# Altium schematic symbol library IC.SchLib: 278 symbols (part 3 of 3)
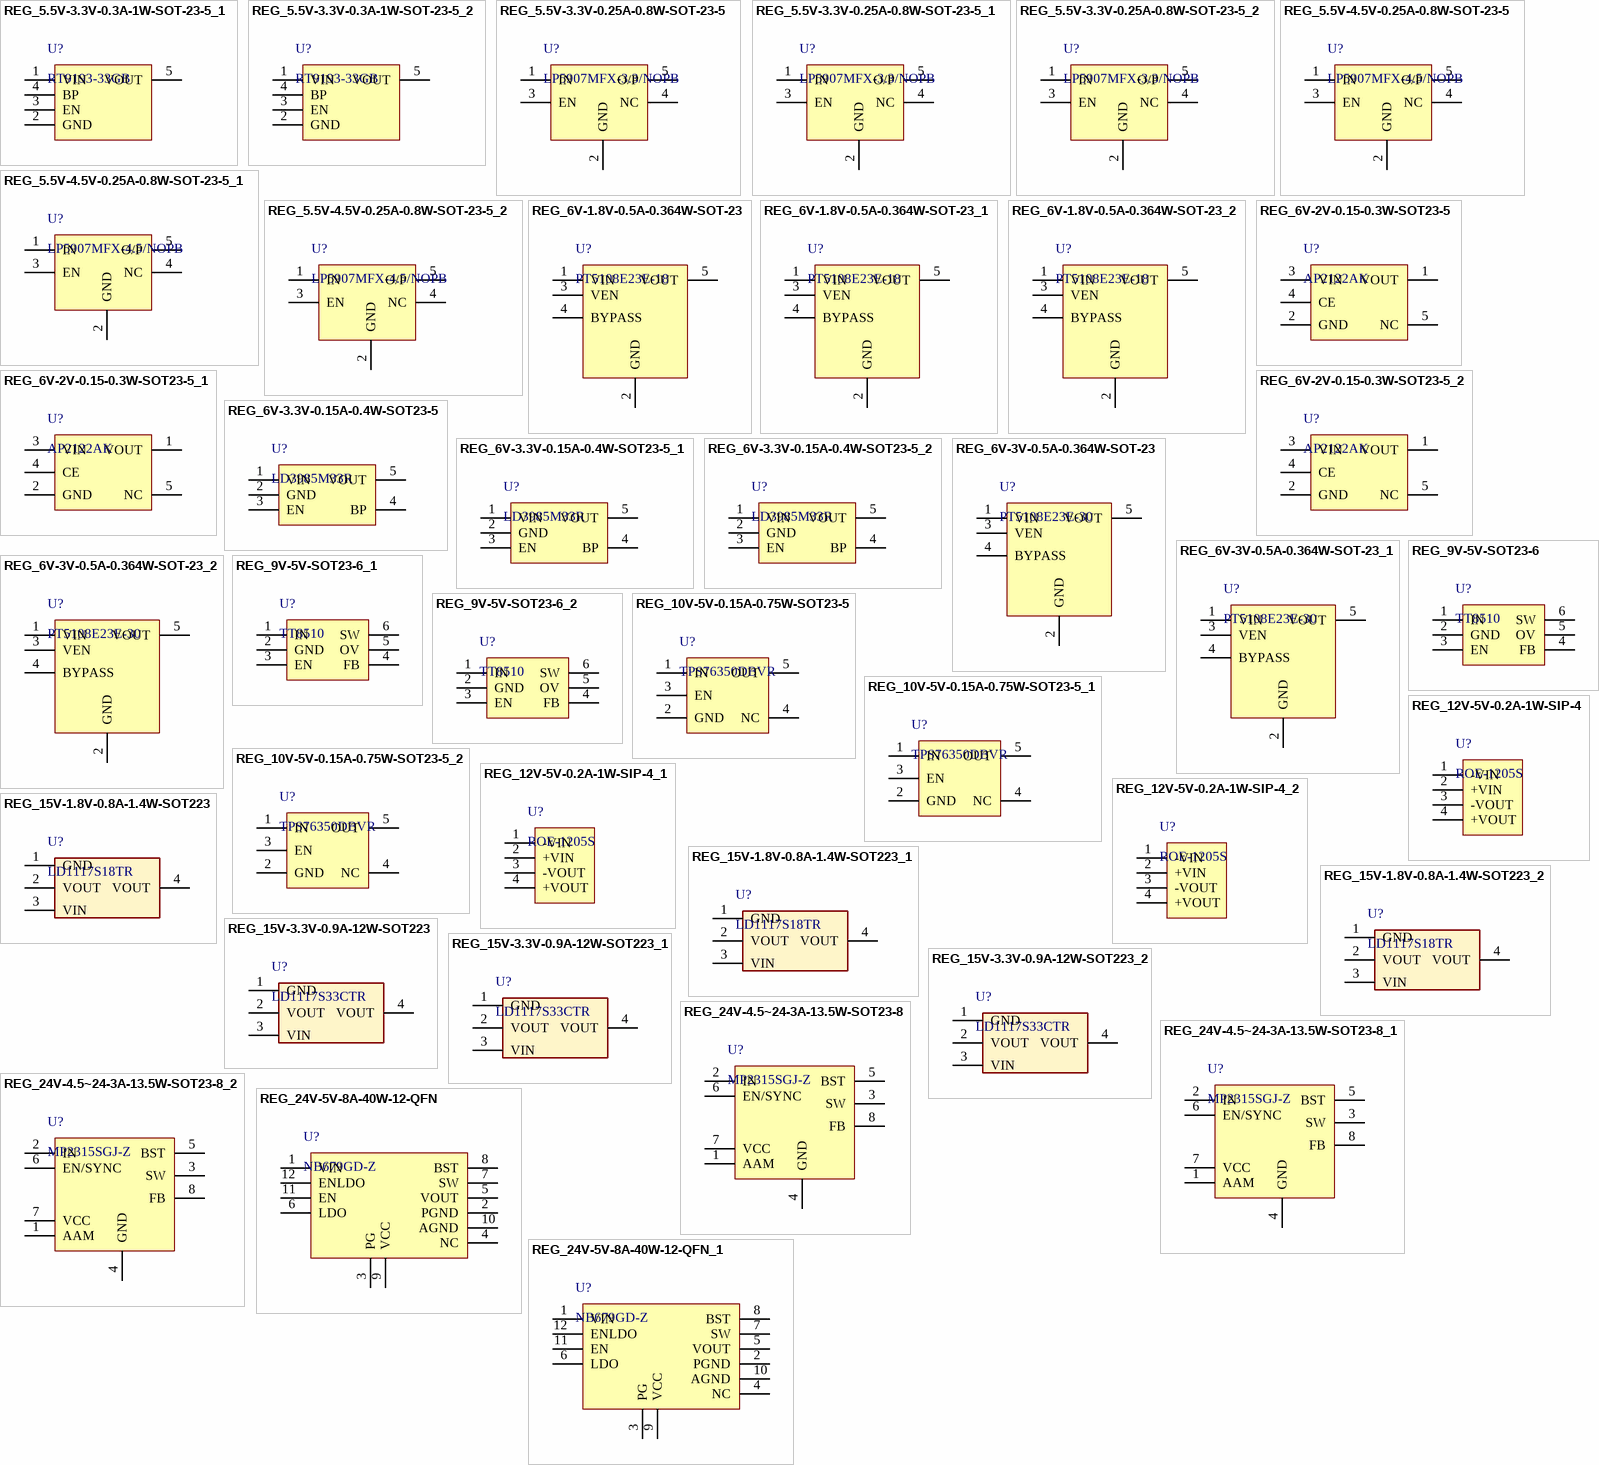
[diagram p13: symbols REG_5.5V-3.3V-0.3A-1W-SOT-23-5_1 to REG_24V-5V-8A-40W-12-QFN_1]

## REG_9V-5V-SOT23-6_2
designator U?, comment TT8510
Boost Converter IC-SOT-23-6 Pckage; Manufacturer: NA; Manufacturer Part Number: TT8510; Case/Package: SOT-23-6; Supplier-1: NA; Supplier Part Number-1: NA; Alternate Part Number-1: NA
footprint SOT23-6 (CASE: SOT)
pins: 1 IN, 2 GND, 3 EN, 4 FB, 5 OV, 6 SW

## REG_10V-5V-0.15A-0.75W-SOT23-5
designator U?, comment TPS76350DBVR
Linear Voltage Regulator IC 1 Output 150mA SOT-23-5; Manufacturer: XP Power; Alternate Part Number-1: NA; Manufacturer Part Number: TPS76350DBVR; Case/Package: SOT23-5; Supplier-1: ARROW; Supplier Part Number-1: TPS76350DBVR
footprint SOT23-5 (CASE: SOT)
pins: 1 IN, 2 GND, 3 EN, 4 NC, 5 OUT

## REG_10V-5V-0.15A-0.75W-SOT23-5_1
designator U?, comment TPS76350DBVR
Linear Voltage Regulator IC 1 Output 150mA SOT-23-5; Manufacturer: XP Power; Alternate Part Number-1: NA; Manufacturer Part Number: TPS76350DBVR; Case/Package: SOT23-5; Supplier-1: ARROW; Supplier Part Number-1: TPS76350DBVR
footprint SOT23-5 (CASE: SOT)
pins: 1 IN, 2 GND, 3 EN, 4 NC, 5 OUT

## REG_10V-5V-0.15A-0.75W-SOT23-5_2
designator U?, comment TPS76350DBVR
Linear Voltage Regulator IC 1 Output 150mA SOT-23-5; Manufacturer: XP Power; Alternate Part Number-1: NA; Manufacturer Part Number: TPS76350DBVR; Case/Package: SOT23-5; Supplier-1: ARROW; Supplier Part Number-1: TPS76350DBVR
footprint SOT23-5 (CASE: SOT)
pins: 1 IN, 2 GND, 3 EN, 4 NC, 5 OUT

## REG_12V-5V-0.2A-1W-SIP-4
designator U?, comment ROE-1205S
Isolated Module DC DC Converter 1 Output 5V 200mA 10.8V - 13.2V Input; Manufacturer: Texas Instruments; Alternate Part Number-1: NA; Manufacturer Part Number: ROE-1205S; Case/Package: SIP-4; Supplier-1: ARROW; Supplier Part Number-1: ROE-1205S
footprint SIP4_100_472_39X59_TH (SIP4)
pins: 1 -VIN, 2 +VIN, 3 -VOUT, 4 +VOUT

## REG_12V-5V-0.2A-1W-SIP-4_1
designator U?, comment ROE-1205S
Isolated Module DC DC Converter 1 Output 5V 200mA 10.8V - 13.2V Input; Manufacturer: Texas Instruments; Alternate Part Number-1: NA; Manufacturer Part Number: ROE-1205S; Case/Package: SIP-4; Supplier-1: ARROW; Supplier Part Number-1: ROE-1205S
footprint SIP4_100_472_39X59_TH (SIP4)
pins: 1 -VIN, 2 +VIN, 3 -VOUT, 4 +VOUT

## REG_12V-5V-0.2A-1W-SIP-4_2
designator U?, comment ROE-1205S
Isolated Module DC DC Converter 1 Output 5V 200mA 10.8V - 13.2V Input; Manufacturer: Texas Instruments; Alternate Part Number-1: NA; Manufacturer Part Number: ROE-1205S; Case/Package: SIP-4; Supplier-1: ARROW; Supplier Part Number-1: ROE-1205S
footprint SIP4_100_472_39X59_TH (SIP4)
pins: 1 -VIN, 2 +VIN, 3 -VOUT, 4 +VOUT

## REG_15V-1.8V-0.8A-1.4W-SOT223
designator U?, comment LD1117S18TR
LDO Voltage Regulators 1.8V 0.8A Positive; Manufacturer: STMicroelectronics; Alternate Part Number-1: NA; Manufacturer Part Number: LD1117S18TR; Case/Package: SOT-223-3; Supplier-1: Mouser; Supplier Part Number-1: 511-LD1117S18-TR
footprint SOT223_3 (CASE: SOT223)
pins: 1 GND, 2 VOUT, 3 VIN, 4 VOUT

## REG_15V-1.8V-0.8A-1.4W-SOT223_1
designator U?, comment LD1117S18TR
LDO Voltage Regulators 1.8V 0.8A Positive; Manufacturer: STMicroelectronics; Alternate Part Number-1: NA; Manufacturer Part Number: LD1117S18TR; Case/Package: SOT-223-3; Supplier-1: Mouser; Supplier Part Number-1: 511-LD1117S18-TR
footprint SOT223_3 (CASE: SOT223)
pins: 1 GND, 2 VOUT, 3 VIN, 4 VOUT

## REG_15V-1.8V-0.8A-1.4W-SOT223_2
designator U?, comment LD1117S18TR
LDO Voltage Regulators 1.8V 0.8A Positive; Manufacturer: STMicroelectronics; Alternate Part Number-1: NA; Manufacturer Part Number: LD1117S18TR; Case/Package: SOT-223-3; Supplier-1: Mouser; Supplier Part Number-1: 511-LD1117S18-TR
footprint SOT223_3 (CASE: SOT223)
pins: 1 GND, 2 VOUT, 3 VIN, 4 VOUT

## REG_15V-3.3V-0.9A-12W-SOT223
designator U?, comment LD1117S33CTR
Linear Voltage Regulator IC 1 Output 800mA SOT-223; Manufacturer: STMicroelectronics; Alternate Part Number-1: NA; Manufacturer Part Number: LD1117S33CTR; Case/Package: SOT223; Supplier-1: SP ROAD; Supplier Part Number-1: LD1117S33CTR
footprint SOT223_3
pins: 1 GND, 2 VOUT, 3 VIN, 4 VOUT

## REG_15V-3.3V-0.9A-12W-SOT223_1
designator U?, comment LD1117S33CTR
Linear Voltage Regulator IC 1 Output 800mA SOT-223; Manufacturer: STMicroelectronics; Alternate Part Number-1: NA; Manufacturer Part Number: LD1117S33CTR; Case/Package: SOT223; Supplier-1: SP ROAD; Supplier Part Number-1: LD1117S33CTR
footprint SOT223_3
pins: 1 GND, 2 VOUT, 3 VIN, 4 VOUT

## REG_15V-3.3V-0.9A-12W-SOT223_2
designator U?, comment LD1117S33CTR
Linear Voltage Regulator IC 1 Output 800mA SOT-223; Manufacturer: STMicroelectronics; Alternate Part Number-1: NA; Manufacturer Part Number: LD1117S33CTR; Case/Package: SOT223; Supplier-1: SP ROAD; Supplier Part Number-1: LD1117S33CTR
footprint SOT223_3
pins: 1 GND, 2 VOUT, 3 VIN, 4 VOUT

## REG_24V-4.5~24-3A-13.5W-SOT23-8
designator U?, comment MP2315SGJ-Z
Switching Voltage Regulators 3A 24V Hi Effc.Sync Step Down Converter; Manufacturer: Monolithic Power Systems (MPS); Alternate Part Number-1: NA; Manufacturer Part Number: MP2315SGJ-Z; Case/Package: SOT-23-8; Supplier-1: Mouser; Supplier Part Number-1: 946-MP2315SGJ-Z
footprint SOT23-8 (Case-SOT)
pins: 1 AAM, 2 IN, 3 SW, 4 GND, 5 BST, 6 EN/SYNC, 7 VCC, 8 FB

## REG_24V-4.5~24-3A-13.5W-SOT23-8_1
designator U?, comment MP2315SGJ-Z
Switching Voltage Regulators 3A 24V Hi Effc.Sync Step Down Converter; Manufacturer: Monolithic Power Systems (MPS); Alternate Part Number-1: NA; Manufacturer Part Number: MP2315SGJ-Z; Case/Package: SOT-23-8; Supplier-1: Mouser; Supplier Part Number-1: 946-MP2315SGJ-Z
footprint SOT23-8 (Case-SOT)
pins: 1 AAM, 2 IN, 3 SW, 4 GND, 5 BST, 6 EN/SYNC, 7 VCC, 8 FB

## REG_24V-4.5~24-3A-13.5W-SOT23-8_2
designator U?, comment MP2315SGJ-Z
Switching Voltage Regulators 3A 24V Hi Effc.Sync Step Down Converter; Manufacturer: Monolithic Power Systems (MPS); Alternate Part Number-1: NA; Manufacturer Part Number: MP2315SGJ-Z; Case/Package: SOT-23-8; Supplier-1: Mouser; Supplier Part Number-1: 946-MP2315SGJ-Z
footprint SOT23-8 (Case-SOT)
pins: 1 AAM, 2 IN, 3 SW, 4 GND, 5 BST, 6 EN/SYNC, 7 VCC, 8 FB

## REG_24V-5V-8A-40W-12-QFN
designator U?, comment NB679GD-Z
PMIC - Voltage Regulators - Linear + Switching 2 Output Step-Down (Buck) Synchronous (1), Linear (LDO) (1) 700kHz 12-QFN (2x3); Manufacturer: Monolithic Power Systems Inc.; Alternate Part Number-1: NA; Manufacturer Part Number: NB679GD-Z; Case/Package: QFN-12; Supplier-1: Digikey; Supplier Part Number-1: 1589-1825-1-ND
footprint QFN12_19.6_141_27.5X9.84_SMD (QFN Package)
pins: 1 VIN, 2 PGND, 3 PG, 4 NC, 5 VOUT, 6 LDO, 7 SW, 8 BST, 9 VCC, 10 AGND, 11 EN, 12 ENLDO

## REG_24V-5V-8A-40W-12-QFN_1
designator U?, comment NB679GD-Z
PMIC - Voltage Regulators - Linear + Switching 2 Output Step-Down (Buck) Synchronous (1), Linear (LDO) (1) 700kHz 12-QFN (2x3); Manufacturer: Monolithic Power Systems Inc.; Alternate Part Number-1: NA; Manufacturer Part Number: NB679GD-Z; Case/Package: QFN-12; Supplier-1: Digikey; Supplier Part Number-1: 1589-1825-1-ND
footprint QFN12_19.6_141_27.5X9.84_SMD (QFN Package)
pins: 1 VIN, 2 PGND, 3 PG, 4 NC, 5 VOUT, 6 LDO, 7 SW, 8 BST, 9 VCC, 10 AGND, 11 EN, 12 ENLDO

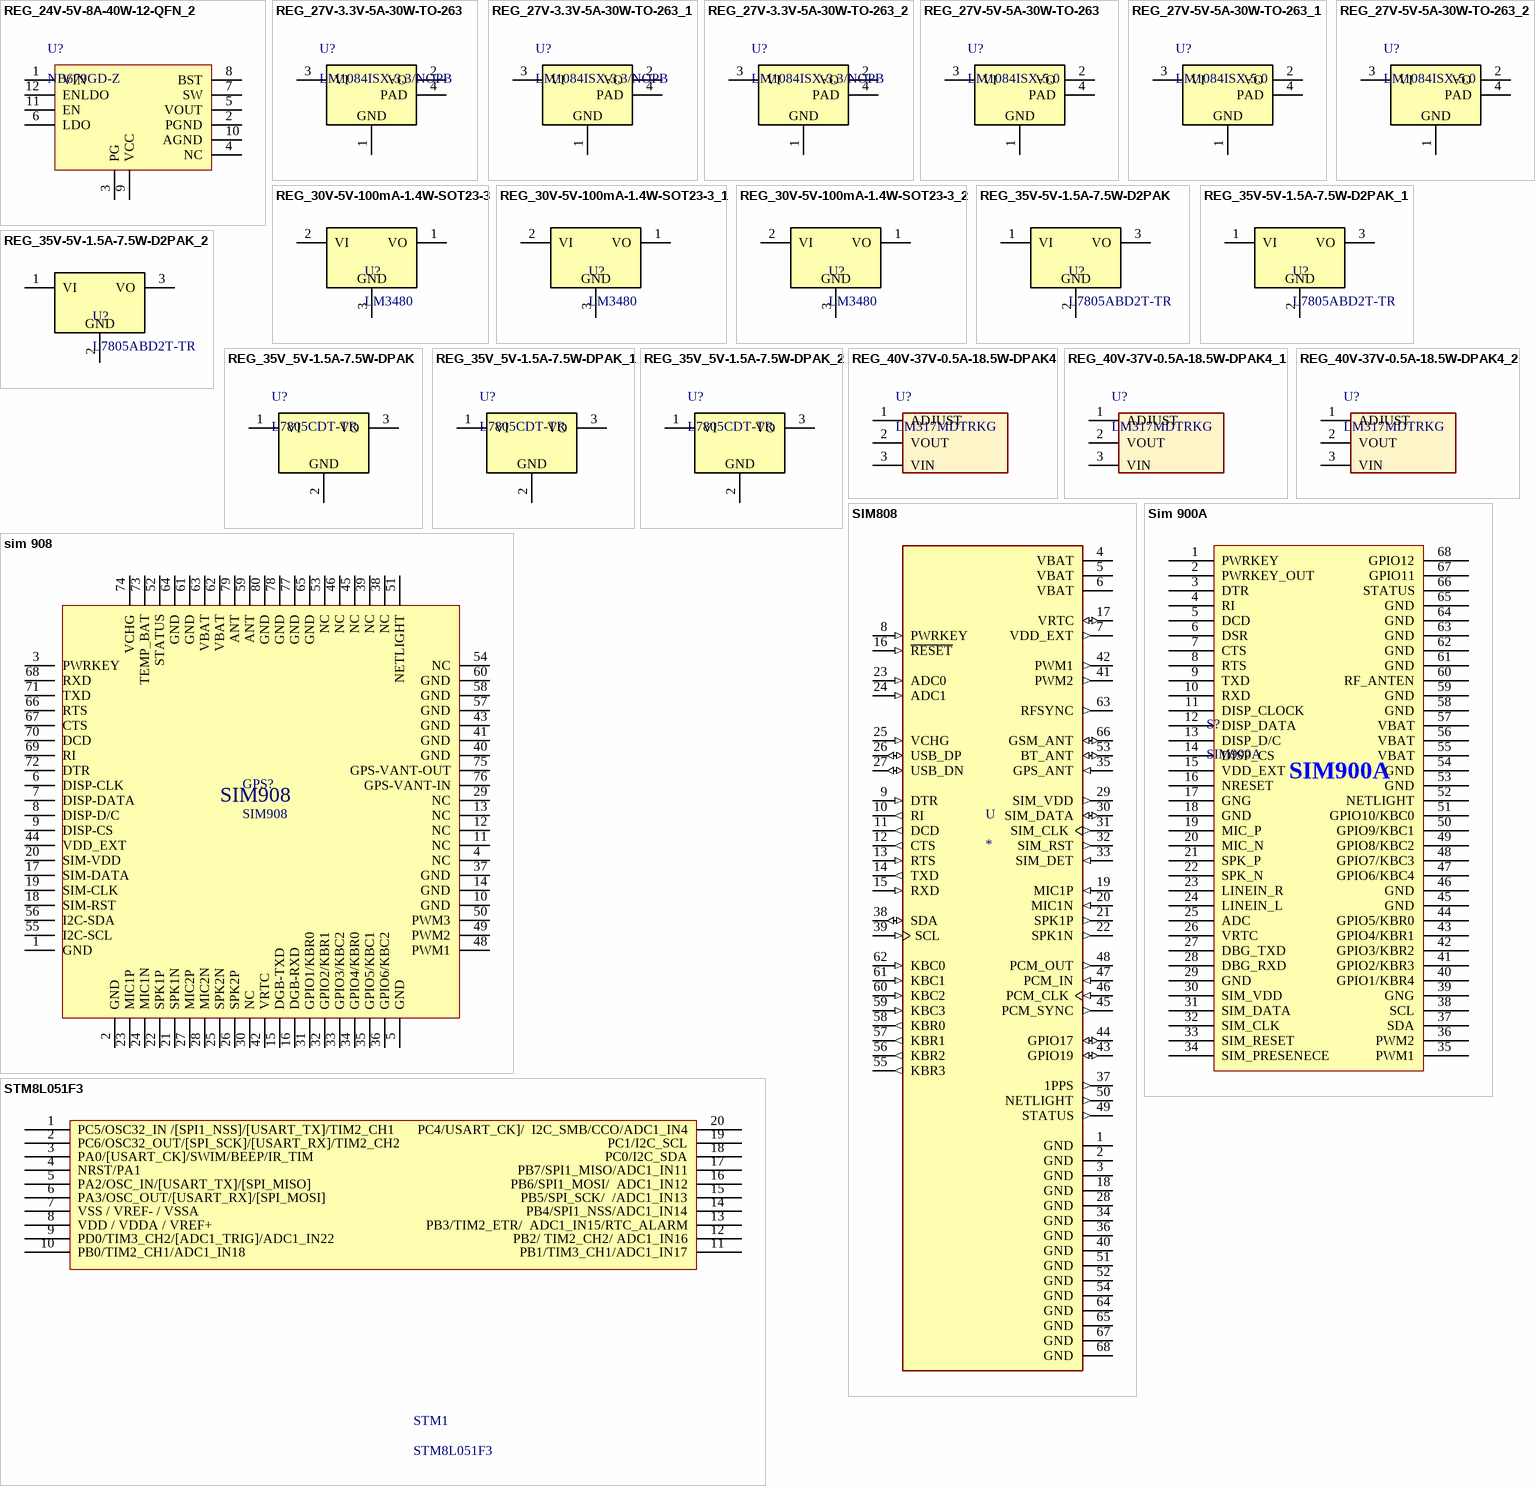
[diagram p8: symbols REG_24V-5V-8A-40W-12-QFN_2 to STM8L051F3]

## REG_24V-5V-8A-40W-12-QFN_2
designator U?, comment NB679GD-Z
PMIC - Voltage Regulators - Linear + Switching 2 Output Step-Down (Buck) Synchronous (1), Linear (LDO) (1) 700kHz 12-QFN (2x3); Manufacturer: Monolithic Power Systems Inc.; Alternate Part Number-1: NA; Manufacturer Part Number: NB679GD-Z; Case/Package: QFN-12; Supplier-1: Digikey; Supplier Part Number-1: 1589-1825-1-ND
footprint QFN12_19.6_141_27.5X9.84_SMD (QFN Package)
pins: 1 VIN, 2 PGND, 3 PG, 4 NC, 5 VOUT, 6 LDO, 7 SW, 8 BST, 9 VCC, 10 AGND, 11 EN, 12 ENLDO

## REG_27V-3.3V-5A-30W-TO-263
designator U?, comment LM1084ISX-3.3/NOPB
Linear Voltage Regulator IC 1 Output 5A DDPAK/TO-263-3; Manufacturer: STMicroelectronics; Alternate Part Number-1: NA; Manufacturer Part Number: LM1084ISX-3.3/NOPB; Case/Package: TO-263; Supplier-1: Mouser; Supplier Part Number-1: 926-LM1084ISX33NOPB
footprint TO-263-3_102_433_181X45_SMD
pins: 1, 2 VO, 3 VI, 4 PAD
text: GND

## REG_27V-3.3V-5A-30W-TO-263_1
designator U?, comment LM1084ISX-3.3/NOPB
Linear Voltage Regulator IC 1 Output 5A DDPAK/TO-263-3; Manufacturer: STMicroelectronics; Alternate Part Number-1: NA; Manufacturer Part Number: LM1084ISX-3.3/NOPB; Case/Package: TO-263; Supplier-1: Mouser; Supplier Part Number-1: 926-LM1084ISX33NOPB
footprint TO-263-3_102_433_181X45_SMD
pins: 1, 2 VO, 3 VI, 4 PAD
text: GND

## REG_27V-3.3V-5A-30W-TO-263_2
designator U?, comment LM1084ISX-3.3/NOPB
Linear Voltage Regulator IC 1 Output 5A DDPAK/TO-263-3; Manufacturer: STMicroelectronics; Alternate Part Number-1: NA; Manufacturer Part Number: LM1084ISX-3.3/NOPB; Case/Package: TO-263; Supplier-1: Mouser; Supplier Part Number-1: 926-LM1084ISX33NOPB
footprint TO-263-3_102_433_181X45_SMD
pins: 1, 2 VO, 3 VI, 4 PAD
text: GND

## REG_27V-5V-5A-30W-TO-263
designator U?, comment LM1084ISX-5.0
Linear Voltage Regulator IC 1 Output 5A DDPAK/TO-263-3; Manufacturer: ON Semiconductor; Manufacturer Part Number: LM1084ISX-5.0/NOPBCT-ND; Alternate Part Number-1: SPX29300T-L-5-0/TR; Case/Package: TO-263; Supplier-1: Mouser; Supplier Part Number-1: 926-LM1084ISX50NOPB
footprint TO-263-3_102_433_181X45_SMD
pins: 1, 2 VO, 3 VI, 4 PAD
text: GND

## REG_27V-5V-5A-30W-TO-263_1
designator U?, comment LM1084ISX-5.0
Linear Voltage Regulator IC 1 Output 5A DDPAK/TO-263-3; Manufacturer: ON Semiconductor; Manufacturer Part Number: LM1084ISX-5.0/NOPBCT-ND; Alternate Part Number-1: SPX29300T-L-5-0/TR; Case/Package: TO-263; Supplier-1: Mouser; Supplier Part Number-1: 926-LM1084ISX50NOPB
footprint TO-263-3_102_433_181X45_SMD
pins: 1, 2 VO, 3 VI, 4 PAD
text: GND

## REG_27V-5V-5A-30W-TO-263_2
designator U?, comment LM1084ISX-5.0
Linear Voltage Regulator IC 1 Output 5A DDPAK/TO-263-3; Manufacturer: ON Semiconductor; Manufacturer Part Number: LM1084ISX-5.0/NOPBCT-ND; Alternate Part Number-1: SPX29300T-L-5-0/TR; Case/Package: TO-263; Supplier-1: Mouser; Supplier Part Number-1: 926-LM1084ISX50NOPB
footprint TO-263-3_102_433_181X45_SMD
pins: 1, 2 VO, 3 VI, 4 PAD
text: GND

## REG_30V-5V-100mA-1.4W-SOT23-3
designator U?, comment LM3480
Linear Voltage Regulator IC 1 Output 100mA SOT-23-3; Manufacturer: Texas Instruments; Manufacturer Part Number: LM3480IM3-5.0/NOPB; Alternate Part Number-1: NA; Case/Package: SOT23-3; Supplier-1: CATLOG COMPONENTS; Supplier Part Number-1: LM3480IM3-5.0/NOPB
footprint SOT 23-3
pins: 1 VO, 2 VI, 3
text: GND

## REG_30V-5V-100mA-1.4W-SOT23-3_1
designator U?, comment LM3480
Linear Voltage Regulator IC 1 Output 100mA SOT-23-3; Manufacturer: Texas Instruments; Manufacturer Part Number: LM3480IM3-5.0/NOPB; Alternate Part Number-1: NA; Case/Package: SOT23-3; Supplier-1: CATLOG COMPONENTS; Supplier Part Number-1: LM3480IM3-5.0/NOPB
footprint SOT 23-3
pins: 1 VO, 2 VI, 3
text: GND

## REG_30V-5V-100mA-1.4W-SOT23-3_2
designator U?, comment LM3480
Linear Voltage Regulator IC 1 Output 100mA SOT-23-3; Manufacturer: Texas Instruments; Manufacturer Part Number: LM3480IM3-5.0/NOPB; Alternate Part Number-1: NA; Case/Package: SOT23-3; Supplier-1: CATLOG COMPONENTS; Supplier Part Number-1: LM3480IM3-5.0/NOPB
footprint SOT 23-3
pins: 1 VO, 2 VI, 3
text: GND

## REG_35V-5V-1.5A-7.5W-D2PAK
designator U?, comment L7805ABD2T-TR
Linear Voltage Regulator IC 1 Output 1.5A D2PAK; Manufacturer: Texas Instruments; Alternate Part Number-1: NA; Manufacturer Part Number: L7805ABD2T-TR; Case/Package: D2PAK; Supplier-1: SP ROAD; Supplier Part Number-1: L7805ABD2T-TR
footprint D2PAK4_94.4_433_43X133_SMD
pins: 1 VI, 2, 3 VO
text: GND

## REG_35V-5V-1.5A-7.5W-D2PAK_1
designator U?, comment L7805ABD2T-TR
Linear Voltage Regulator IC 1 Output 1.5A D2PAK; Manufacturer: Texas Instruments; Alternate Part Number-1: NA; Manufacturer Part Number: L7805ABD2T-TR; Case/Package: D2PAK; Supplier-1: SP ROAD; Supplier Part Number-1: L7805ABD2T-TR
footprint D2PAK4_94.4_433_43X133_SMD
pins: 1 VI, 2, 3 VO
text: GND

## REG_35V-5V-1.5A-7.5W-D2PAK_2
designator U?, comment L7805ABD2T-TR
Linear Voltage Regulator IC 1 Output 1.5A D2PAK; Manufacturer: Texas Instruments; Alternate Part Number-1: NA; Manufacturer Part Number: L7805ABD2T-TR; Case/Package: D2PAK; Supplier-1: SP ROAD; Supplier Part Number-1: L7805ABD2T-TR
footprint D2PAK4_94.4_433_43X133_SMD
pins: 1 VI, 2, 3 VO
text: GND

## REG_35V_5V-1.5A-7.5W-DPAK
designator U?, comment L7805CDT-TR
Linear Voltage Regulator IC 1 Output 1.5A DPAK; Manufacturer: Diodes; Alternate Part Number-1: CJ7805 3%; Manufacturer Part Number: L7805CDT-TR; Case/Package: DPAK; Supplier-1: SP ROAD; Supplier Part Number-1: L7805CDT-TR
footprint DPAK_118_446_112X59_SMD (CASE: DPAK)
pins: 1 VI, 2, 3 VO
text: GND

## REG_35V_5V-1.5A-7.5W-DPAK_1
designator U?, comment L7805CDT-TR
Linear Voltage Regulator IC 1 Output 1.5A DPAK; Manufacturer: Diodes; Alternate Part Number-1: CJ7805 3%; Manufacturer Part Number: L7805CDT-TR; Case/Package: DPAK; Supplier-1: SP ROAD; Supplier Part Number-1: L7805CDT-TR
footprint DPAK_118_446_112X59_SMD (CASE: DPAK)
pins: 1 VI, 2, 3 VO
text: GND

## REG_35V_5V-1.5A-7.5W-DPAK_2
designator U?, comment L7805CDT-TR
Linear Voltage Regulator IC 1 Output 1.5A DPAK; Manufacturer: Diodes; Alternate Part Number-1: CJ7805 3%; Manufacturer Part Number: L7805CDT-TR; Case/Package: DPAK; Supplier-1: SP ROAD; Supplier Part Number-1: L7805CDT-TR
footprint DPAK_118_446_112X59_SMD (CASE: DPAK)
pins: 1 VI, 2, 3 VO
text: GND

## REG_40V-37V-0.5A-18.5W-DPAK4
designator U?, comment LM317MDTRKG
Linear Voltage Regulator IC Positive Adjustable 1 Output 500mA DPAK; Manufacturer: STMicroelectronics; Alternate Part Number-1: NA; Manufacturer Part Number: LM317MDTRKG; Case/Package: DPAK4; Supplier-1: SP ROAD; Supplier Part Number-1: LM317MDTRKG
footprint DPAK_118_446_112X59_SMD (CASE: DPAK)
pins: 1 ADJUST, 2 VOUT, 3 VIN

## REG_40V-37V-0.5A-18.5W-DPAK4_1
designator U?, comment LM317MDTRKG
Linear Voltage Regulator IC Positive Adjustable 1 Output 500mA DPAK; Manufacturer: STMicroelectronics; Alternate Part Number-1: NA; Manufacturer Part Number: LM317MDTRKG; Case/Package: DPAK4; Supplier-1: SP ROAD; Supplier Part Number-1: LM317MDTRKG
footprint DPAK_118_446_112X59_SMD (CASE: DPAK)
pins: 1 ADJUST, 2 VOUT, 3 VIN

## REG_40V-37V-0.5A-18.5W-DPAK4_2
designator U?, comment LM317MDTRKG
Linear Voltage Regulator IC Positive Adjustable 1 Output 500mA DPAK; Manufacturer: STMicroelectronics; Alternate Part Number-1: NA; Manufacturer Part Number: LM317MDTRKG; Case/Package: DPAK4; Supplier-1: SP ROAD; Supplier Part Number-1: LM317MDTRKG
footprint DPAK_118_446_112X59_SMD (CASE: DPAK)
pins: 1 ADJUST, 2 VOUT, 3 VIN

## SIM808
designator U
SIM808 GPS, GPRS/GSM RF Arduino Platform Evaluation Expansion Board; MF: Adafruit Industries; MP: SIM808; Package: None; SnapEDA_Link: https://www.snapeda.com/parts/SIM808/SIMcom%20Wireless%20solutions%20Co.%2CLtd/view-part/424834/?ref=snap; Availability: Unavailable; Price: None; Value: *
footprint SIM808
pins: 1 GND (power), 2 GND (power), 3 GND (power), 4 VBAT (power), 5 VBAT (power), 6 VBAT (power), 7 VDD_EXT (out), 8 PWRKEY (in), 9 DTR (in), 10 RI (out), 11 DCD (out), 12 CTS (out), 13 RTS (in), 14 TXD (out), 15 RXD (in), 16 ~{RESET} (in), 17 VRTC (io), 18 GND (power), 19 MIC1P (in), 20 MIC1N (in), 21 SPK1P (out), 22 SPK1N (out), 23 ADC0 (in), 24 ADC1 (in), 25 VCHG (in), 26 USB_DP (io), 27 USB_DN (io), 28 GND (power), 29 SIM_VDD (out), 30 SIM_DATA (io), 31 SIM_CLK (out), 32 SIM_RST (out), 33 SIM_DET (in), 34 GND (power), 35 GPS_ANT (in), 36 GND (power), 37 1PPS (out), 38 SDA (io), 39 SCL (in), 40 GND (power), 41 PWM2 (out), 42 PWM1 (out), 43 GPIO19 (io), 44 GPIO17 (io), 45 PCM_SYNC (out), 46 PCM_CLK (in), 47 PCM_IN (in), 48 PCM_OUT (out), 49 STATUS (out), 50 NETLIGHT (out), 51 GND (power), 52 GND (power), 53 BT_ANT (io), 54 GND (power), 55 KBR3 (out), 56 KBR2 (out), 57 KBR1 (out), 58 KBR0 (out), 59 KBC3 (in), 60 KBC2 (in), 61 KBC1 (in), 62 KBC0 (in), 63 RFSYNC (out), 64 GND (power), 65 GND (power), 66 GSM_ANT (io), 67 GND (power), 68 GND (power)

## Sim 900A
designator S?, comment SIM900A
Dán; Don_Vi: Con; Ma_Hang: MH001813; Ten_Linh_Kien: SIM900A; Ghi_Chu: *; Kieu_Chan: *; Chung_Loai: Dán
footprint sim900
pins: 1 PWRKEY, 2 PWRKEY_OUT, 3 DTR, 4 RI, 5 DCD, 6 DSR, 7 CTS, 8 RTS, 9 TXD, 10 RXD, 11 DISP_CLOCK, 12 DISP_DATA, 13 DISP_D/C, 14 DISP_CS, 15 VDD_EXT, 16 NRESET, 17 GNG, 18 GND, 19 MIC_P, 20 MIC_N, 21 SPK_P, 22 SPK_N, 23 LINEIN_R, 24 LINEIN_L, 25 ADC, 26 VRTC, 27 DBG_TXD, 28 DBG_RXD, 29 GND, 30 SIM_VDD, 31 SIM_DATA, 32 SIM_CLK, 33 SIM_RESET, 34 SIM_PRESENECE, 35 PWM1, 36 PWM2, 37 SDA, 38 SCL, 39 GNG, 40 GPIO1/KBR4, 41 GPIO2/KBR3, 42 GPIO3/KBR2, 43 GPIO4/KBR1, 44 GPIO5/KBR0, 45 GND, 46 GND, 47 GPIO6/KBC4, 48 GPIO7/KBC3, 49 GPIO8/KBC2, 50 GPIO9/KBC1, 51 GPIO10/KBC0, 52 NETLIGHT, 53 GND, 54 GND, 55 VBAT, 56 VBAT, 57 VBAT, 58 GND, 59 GND, 60 RF_ANTEN, 61 GND, 62 GND, 63 GND, 64 GND, 65 GND, 66 STATUS, 67 GPIO11, 68 GPIO12

## sim 908
designator GPS?, comment SIM908
footprint SIM908
pins: 1 GND, 2 GND, 3 PWRKEY, 4 NC, 5 GND, 6 DISP-CLK, 7 DISP-DATA, 8 DISP-D/C, 9 DISP-CS, 10 GND, 11 NC, 12 NC, 13 NC, 14 GND, 15 DGB-TXD, 16 DGB-RXD, 17 SIM-DATA, 18 SIM-RST, 19 SIM-CLK, 20 SIM-VDD, 21 SPK1N, 22 SPK1P, 23 MIC1P, 24 MIC1N, 25 SPK2N, 26 SPK2P, 27 MIC2P, 28 MIC2N, 29 NC, 30 NC, 31 GPIO1/KBR0, 32 GPIO2/KBR1, 33 GPIO3/KBC2, 34 GPIO4/KBR0, 35 GPIO5/KBC1, 36 GPIO6/KBC2, 37 GND, 38 NC, 39 NC, 40 GND, 41 GND, 42 VRTC, 43 GND, 44 VDD_EXT, 45 NC, 46 NC, 48 PWM1, 49 PWM2, 50 PWM3, 51 NETLIGHT, 52 STATUS, 53 NC, 54 NC, 55 I2C-SCL, 56 I2C-SDA, 57 GND, 58 GND, 59 ANT "I/O", 60 GND, 61 GND, 62 VBAT, 63 VBAT, 64 GND, 65 GND, 66 RTS, 67 CTS, 68 RXD, 69 RI, 70 DCD, 71 TXD, 72 DTR, 73 TEMP_BAT, 74 VCHG, 75 GPS-VANT-OUT, 76 GPS-VANT-IN, 77 GND, 78 GND, 79 ANT "I", 80 GND

## STM8L051F3
designator STM1
footprint TSSOP20 (Shrink Small Outline; 20 Leads; Body Width 4.4 mm; Pitch 0.65 mm)
pins: 1 PC5/OSC32_IN /[SPI1_NSS]/[USART_TX]/TIM2_CH1, 2 PC6/OSC32_OUT/[SPI_SCK]/[USART_RX]/TIM2_CH2, 3 PA0/[USART_CK]/SWIM/BEEP/IR_TIM, 4 NRST/PA1, 5 PA2/OSC_IN/[USART_TX]/[SPI_MISO], 6 PA3/OSC_OUT/[USART_RX]/[SPI_MOSI], 7 VSS / VREF- / VSSA , 8 VDD / VDDA / VREF+, 9 PD0/TIM3_CH2/[ADC1_TRIG]/ADC1_IN22, 10 PB0/TIM2_CH1/ADC1_IN18, 11 PB1/TIM3_CH1/ADC1_IN17, 12 PB2/ TIM2_CH2/ ADC1_IN16, 13 PB3/TIM2_ETR/  ADC1_IN15/RTC_ALARM, 14 PB4/SPI1_NSS/ADC1_IN14, 15 PB5/SPI_SCK/  /ADC1_IN13, 16 PB6/SPI1_MOSI/  ADC1_IN12, 17 PB7/SPI1_MISO/ADC1_IN11, 18 PC0/I2C_SDA, 19 PC1/I2C_SCL, 20 PC4/USART_CK]/  I2C_SMB/CCO/ADC1_IN4

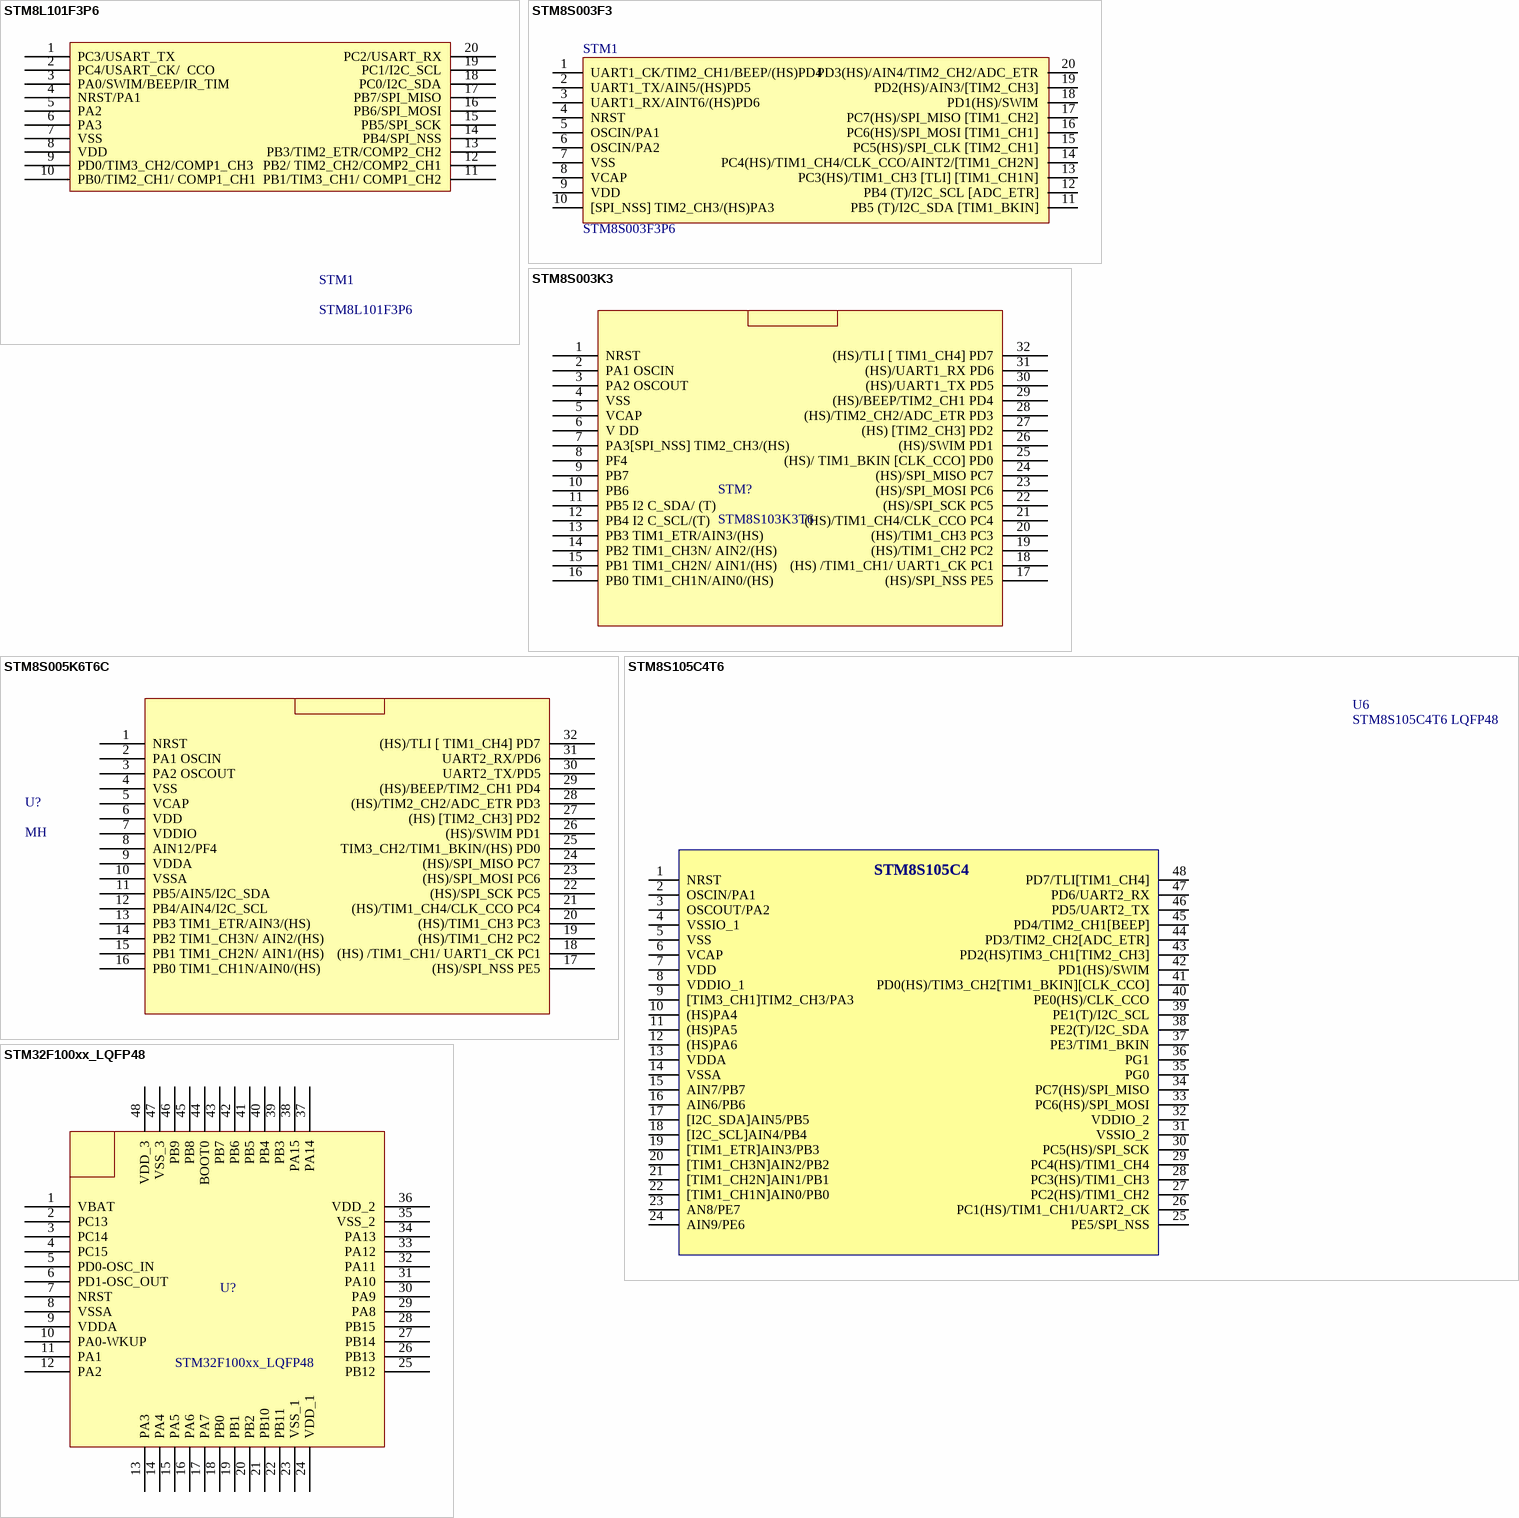
[diagram p9: symbols STM8L101F3P6 to STM32F100xx_LQFP48]

## STM8L101F3P6
designator STM1
footprint TSSOP20 (Shrink Small Outline; 20 Leads; Body Width 4.4 mm; Pitch 0.65 mm)
pins: 1 PC3/USART_TX, 2 PC4/USART_CK/  CCO, 3 PA0/SWIM/BEEP/IR_TIM, 4 NRST/PA1, 5 PA2, 6 PA3, 7 VSS, 8 VDD, 9 PD0/TIM3_CH2/COMP1_CH3, 10 PB0/TIM2_CH1/ COMP1_CH1, 11 PB1/TIM3_CH1/ COMP1_CH2, 12 PB2/ TIM2_CH2/COMP2_CH1, 13 PB3/TIM2_ETR/COMP2_CH2, 14  PB4/SPI_NSS, 15  PB5/SPI_SCK, 16  PB6/SPI_MOSI, 17 PB7/SPI_MISO, 18  PC0/I2C_SDA, 19 PC1/I2C_SCL, 20 PC2/USART_RX

## STM8S003F3
designator STM1, comment STM8S003F3P6
Dán; Ten_Linh_Kien: STM8S003F3P6 TSSOP20; Don_Vi: Con; Ma_Hang: MH001918; Kieu_Chan: *; Ghi_Chu: *; Chung_Loai: Dán
footprint TSSOP20 (Shrink Small Outline; 20 Leads; Body Width 4.4 mm; Pitch 0.65 mm)
pins: 1 UART1_CK/TIM2_CH1/BEEP/(HS)PD4, 2 UART1_TX/AIN5/(HS)PD5, 3 UART1_RX/AINT6/(HS)PD6, 4 NRST, 5 OSCIN/PA1, 6 OSCIN/PA2, 7 VSS, 8 VCAP, 9 VDD, 10 [SPI_NSS] TIM2_CH3/(HS)PA3, 11 PB5 (T)/I2C_SDA [TIM1_BKIN], 12 PB4 (T)/I2C_SCL [ADC_ETR], 13 PC3(HS)/TIM1_CH3 [TLI] [TIM1_CH1N], 14 PC4(HS)/TIM1_CH4/CLK_CCO/AINT2/[TIM1_CH2N], 15 PC5(HS)/SPI_CLK [TIM2_CH1], 16 PC6(HS)/SPI_MOSI [TIM1_CH1], 17 PC7(HS)/SPI_MISO [TIM1_CH2], 18 PD1(HS)/SWIM, 19 PD2(HS)/AIN3/[TIM2_CH3], 20 PD3(HS)/AIN4/TIM2_CH2/ADC_ETR

## STM8S003K3
designator STM?, comment STM8S103K3T6
Dán; Ma_Hang: MH001694; Don_Vi: Con; Ten_Linh_Kien: STM8S103K3T6; Ghi_Chu: *; Kieu_Chan: *; Chung_Loai: Dán
footprint LQFP 32 (Thin QFP, 32-Leads, Body 7x7mm, Pitch 0.8mm, IPC Low Density)
pins: 1 NRST, 2 PA1 OSCIN, 3 PA2 OSCOUT, 4 VSS, 5 VCAP, 6 V DD, 7 PA3[SPI_NSS] TIM2_CH3/(HS), 8 PF4, 9 PB7, 10 PB6, 11 PB5 I2 C_SDA/ (T), 12 PB4 I2 C_SCL/(T), 13 PB3 TIM1_ETR/AIN3/(HS), 14 PB2 TIM1_CH3N/ AIN2/(HS), 15 PB1 TIM1_CH2N/ AIN1/(HS), 16 PB0 TIM1_CH1N/AIN0/(HS), 17 (HS)/SPI_NSS PE5, 18 (HS) /TIM1_CH1/ UART1_CK PC1, 19 (HS)/TIM1_CH2 PC2, 20 (HS)/TIM1_CH3 PC3, 21 (HS)/TIM1_CH4/CLK_CCO PC4, 22 (HS)/SPI_SCK PC5, 23 (HS)/SPI_MOSI PC6, 24 (HS)/SPI_MISO PC7, 25 (HS)/ TIM1_BKIN [CLK_CCO] PD0, 26 (HS)/SWIM PD1, 27 (HS) [TIM2_CH3] PD2, 28 (HS)/TIM2_CH2/ADC_ETR PD3, 29 (HS)/BEEP/TIM2_CH1 PD4, 30 (HS)/UART1_TX PD5, 31 (HS)/UART1_RX PD6, 32 (HS)/TLI [ TIM1_CH4] PD7

## STM8S005K6T6C
designator U?, comment MH
Dán; Don_vi: Con; Ma_Hang: MH009214; Ten: STM8S005K6T6 LQFP32; Chung_loai: Dán; Ghi_Chu: *; Kieu_chan: *
footprint LQFP 32 (Thin QFP, 32-Leads, Body 7x7mm, Pitch 0.8mm, IPC Low Density)
pins: 1 NRST, 2 PA1 OSCIN, 3 PA2 OSCOUT, 4 VSS, 5 VCAP, 6 VDD, 7 VDDIO, 8 AIN12/PF4, 9 VDDA, 10 VSSA, 11 PB5/AIN5/I2C_SDA, 12 PB4/AIN4/I2C_SCL, 13 PB3 TIM1_ETR/AIN3/(HS), 14 PB2 TIM1_CH3N/ AIN2/(HS), 15 PB1 TIM1_CH2N/ AIN1/(HS), 16 PB0 TIM1_CH1N/AIN0/(HS), 17 (HS)/SPI_NSS PE5, 18 (HS) /TIM1_CH1/ UART1_CK PC1, 19 (HS)/TIM1_CH2 PC2, 20 (HS)/TIM1_CH3 PC3, 21 (HS)/TIM1_CH4/CLK_CCO PC4, 22 (HS)/SPI_SCK PC5, 23 (HS)/SPI_MOSI PC6, 24 (HS)/SPI_MISO PC7, 25 TIM3_CH2/TIM1_BKIN/(HS) PD0, 26 (HS)/SWIM PD1, 27 (HS) [TIM2_CH3] PD2, 28 (HS)/TIM2_CH2/ADC_ETR PD3, 29 (HS)/BEEP/TIM2_CH1 PD4, 30 UART2_TX/PD5, 31 UART2_RX/PD6, 32 (HS)/TLI [ TIM1_CH4] PD7

## STM8S105C4T6
designator U6, comment STM8S105C4T6 LQFP48
Dán; Ma_Hang: MH002597; Don_Vi: Con; Ten_Linh_Kien: STM8S105C4T6 LQFP48; Ghi_Chu: *; Kieu_Chan: *; Chung_Loai: Dán
footprint LQFP 48 (Thin QFP, 48-Leads, Body 7x7mm, Pitch 0.5mm, IPC Low Density)
pins: 1 NRST, 2 OSCIN/PA1, 3 OSCOUT/PA2, 4 VSSIO_1, 5 VSS, 6 VCAP, 7 VDD, 8 VDDIO_1, 9 [TIM3_CH1]TIM2_CH3/PA3, 10 (HS)PA4, 11 (HS)PA5, 12 (HS)PA6, 13 VDDA, 14 VSSA, 15 AIN7/PB7, 16 AIN6/PB6, 17 [I2C_SDA]AIN5/PB5, 18 [I2C_SCL]AIN4/PB4, 19 [TIM1_ETR]AIN3/PB3, 20 [TIM1_CH3N]AIN2/PB2, 21 [TIM1_CH2N]AIN1/PB1, 22 [TIM1_CH1N]AIN0/PB0, 23 AN8/PE7, 24 AIN9/PE6, 25 PE5/SPI_NSS, 26 PC1(HS)/TIM1_CH1/UART2_CK, 27 PC2(HS)/TIM1_CH2, 28 PC3(HS)/TIM1_CH3, 29 PC4(HS)/TIM1_CH4, 30 PC5(HS)/SPI_SCK, 31 VSSIO_2, 32 VDDIO_2, 33 PC6(HS)/SPI_MOSI, 34 PC7(HS)/SPI_MISO, 35 PG0, 36 PG1, 37 PE3/TIM1_BKIN, 38 PE2(T)/I2C_SDA, 39 PE1(T)/I2C_SCL, 40 PE0(HS)/CLK_CCO, 41 PD0(HS)/TIM3_CH2[TIM1_BKIN][CLK_CCO], 42 PD1(HS)/SWIM, 43 PD2(HS)TIM3_CH1[TIM2_CH3], 44 PD3/TIM2_CH2[ADC_ETR], 45 PD4/TIM2_CH1[BEEP], 46 PD5/UART2_TX, 47 PD6/UART2_RX, 48 PD7/TLI[TIM1_CH4]
text: STM8S105C4

## STM32F100xx_LQFP48
designator U?
footprint STM32_LQPF48
pins: 1 VBAT, 2 PC13, 3 PC14, 4 PC15, 5 PD0-OSC_IN, 6 PD1-OSC_OUT, 7 NRST, 8 VSSA, 9 VDDA, 10 PA0-WKUP, 11 PA1, 12 PA2, 13 PA3, 14 PA4, 15 PA5, 16 PA6, 17 PA7, 18 PB0, 19 PB1, 20 PB2, 21 PB10, 22 PB11, 23 VSS_1, 24 VDD_1, 25 PB12, 26 PB13, 27 PB14, 28 PB15, 29 PA8, 30 PA9, 31 PA10, 32 PA11, 33 PA12, 34 PA13, 35 VSS_2, 36 VDD_2, 37 PA14, 38 PA15, 39 PB3, 40 PB4, 41 PB5, 42 PB6, 43 PB7, 44 BOOT0, 45 PB8, 46 PB9, 47 VSS_3, 48 VDD_3

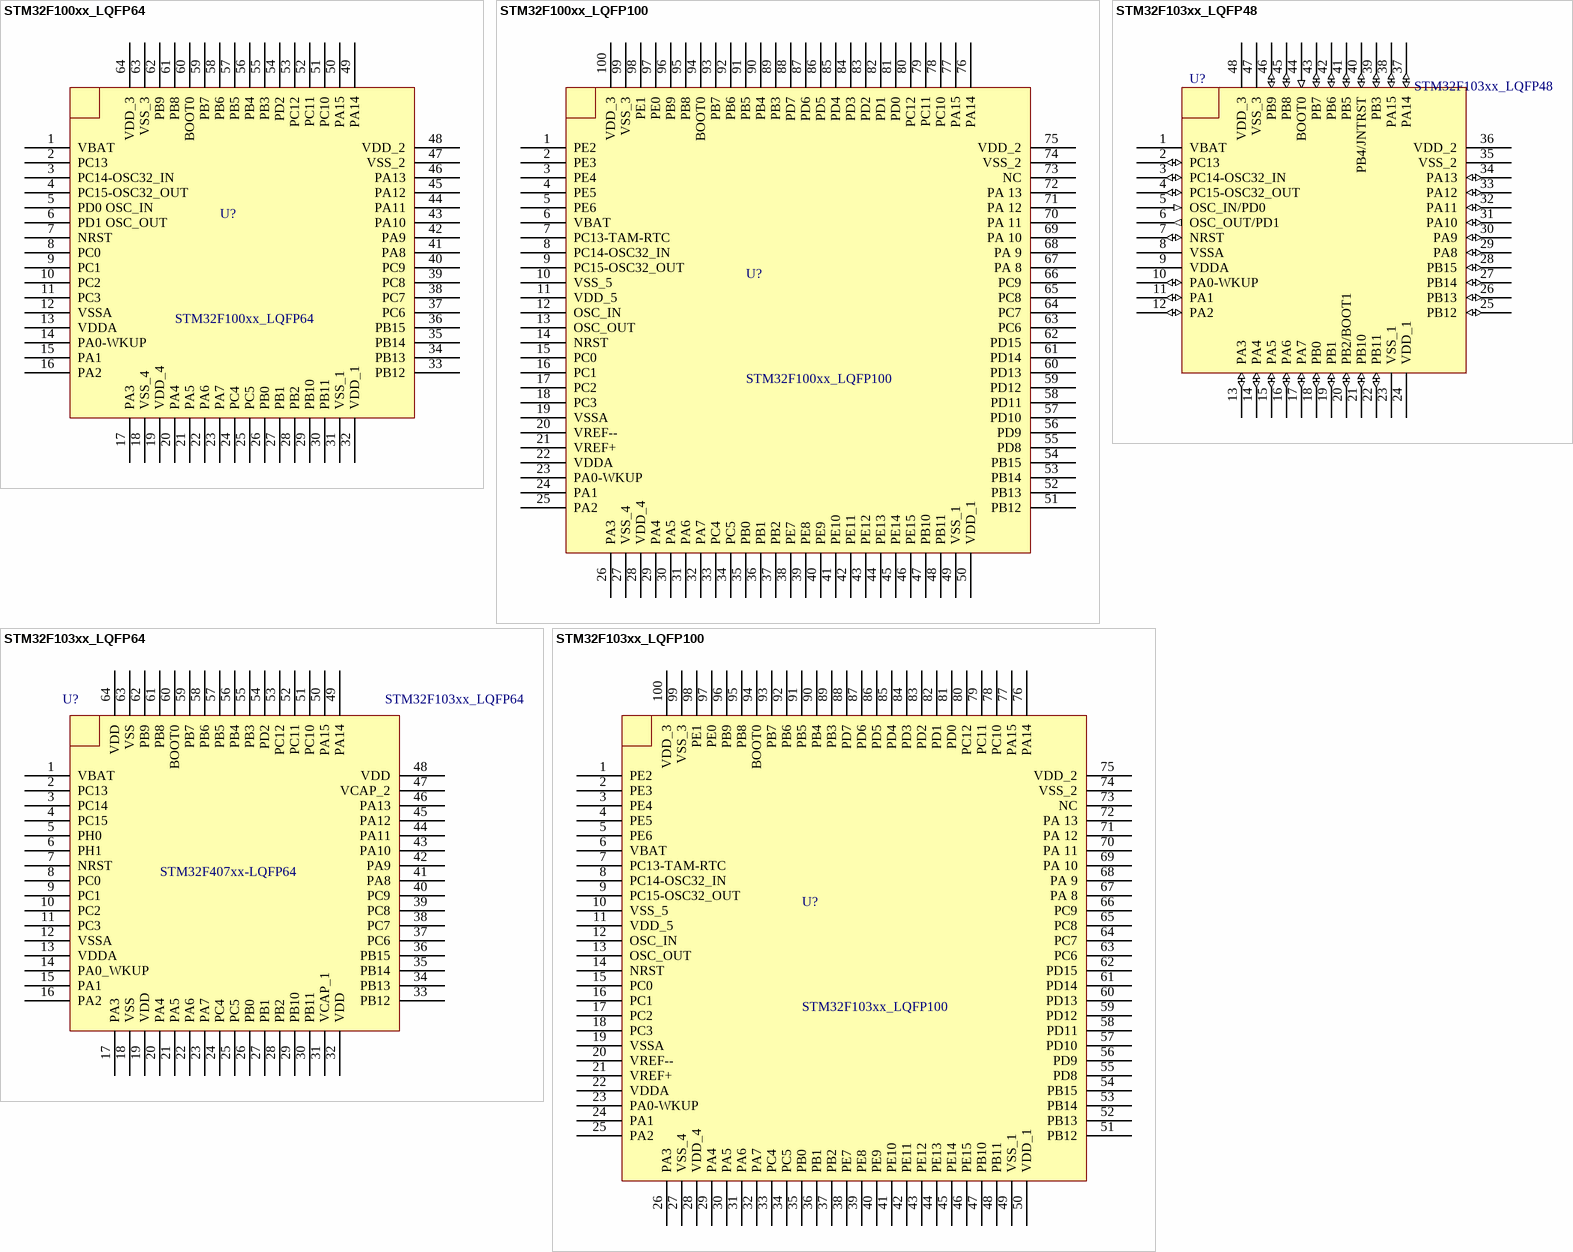
[diagram p10: symbols STM32F100xx_LQFP64 to STM32F103xx_LQFP100]

## STM32F100xx_LQFP64
designator U?
footprint STM32_LQFP64 (TSQFP, 64-Leads, Body 10.00x10.00mm, Pitch 0.50mm, IPC Medium Density)
pins: 1 VBAT, 2 PC13, 3 PC14-OSC32_IN, 4 PC15-OSC32_OUT, 5 PD0 OSC_IN, 6 PD1 OSC_OUT, 7 NRST, 8 PC0, 9 PC1, 10 PC2, 11 PC3, 12 VSSA, 13 VDDA, 14 PA0-WKUP, 15 PA1, 16 PA2, 17 PA3, 18 VSS_4, 19 VDD_4, 20 PA4, 21 PA5, 22 PA6, 23 PA7, 24 PC4, 25 PC5, 26 PB0, 27 PB1, 28 PB2, 29 PB10, 30 PB11, 31 VSS_1, 32 VDD_1, 33 PB12, 34 PB13, 35 PB14, 36 PB15, 37 PC6, 38 PC7, 39 PC8, 40 PC9, 41 PA8, 42 PA9, 43 PA10, 44 PA11, 45 PA12, 46 PA13, 47 VSS_2, 48 VDD_2, 49 PA14, 50 PA15, 51 PC10, 52 PC11, 53 PC12, 54 PD2, 55 PB3, 56 PB4, 57 PB5, 58 PB6, 59 PB7, 60 BOOT0, 61 PB8, 62 PB9, 63 VSS_3, 64 VDD_3

## STM32F100xx_LQFP100
designator U?
footprint STM32_LQFP100 (TSQFP, 100-Leads, Body 14.00x14.00mm, Pitch 0.50mm, IPC Medium Density)
pins: 1 PE2, 2 PE3, 3 PE4, 4 PE5, 5 PE6, 6 VBAT, 7 PC13-TAM-RTC, 8 PC14-OSC32_IN, 9 PC15-OSC32_OUT, 10 VSS_5, 11 VDD_5, 12 OSC_IN, 13 OSC_OUT, 14 NRST, 15 PC0, 16 PC1, 17 PC2, 18 PC3, 19 VSSA, 20 VREF--, 21 VREF+, 22 VDDA, 23 PA0-WKUP, 24 PA1, 25 PA2, 26 PA3, 27 VSS_4, 28 VDD_4, 29 PA4, 30 PA5, 31 PA6, 32 PA7, 33 PC4, 34 PC5, 35 PB0, 36 PB1, 37 PB2, 38 PE7, 39 PE8, 40 PE9, 41 PE10, 42 PE11, 43 PE12, 44 PE13, 45 PE14, 46 PE15, 47 PB10, 48 PB11, 49 VSS_1, 50 VDD_1, 51 PB12, 52 PB13, 53 PB14, 54 PB15, 55 PD8, 56 PD9, 57 PD10, 58 PD11, 59 PD12, 60 PD13, 61 PD14, 62 PD15, 63 PC6, 64 PC7, 65 PC8, 66 PC9, 67 PA 8, 68 PA 9, 69 PA 10, 70 PA 11, 71 PA 12, 72 PA 13, 73 NC, 74 VSS_2, 75 VDD_2, 76 PA14, 77 PA15, 78 PC10, 79 PC11, 80 PC12, 81 PD0, 82 PD1, 83 PD2, 84 PD3, 85 PD4, 86 PD5, 87 PD6, 88 PD7, 89 PB3, 90 PB4, 91 PB5, 92 PB6, 93 PB7, 94 BOOT0, 95 PB8, 96 PB9, 97 PE0, 98 PE1, 99 VSS_3, 100 VDD_3

## STM32F103xx_LQFP48
designator U?
Published: 30-May-2008; DatasheetVersion: rev6, Mar-2008; PackageVersion: Mar-2008; PackageReference: LQFP48; Publisher: Altium Limited; PackageDescription: 48-Pin Low-Profile Quad Flat Pack, 7 x 7 mm Body, 0.5 mm Pitch (LQFP48); ComponentLink1Description: Manufacturer Link; ComponentLink1URL: www.st.com/stm32; ComponentLink2Description: Datasheet; ComponentLink2URL: http://www.st.com/stonline/products/literature/ds/13587.pdf
footprint STM32_LQPF48
pins: 1 VBAT (power), 2 PC13 (io), 3 PC14-OSC32_IN (io), 4 PC15-OSC32_OUT (io), 5 OSC_IN/PD0 (in), 6 OSC_OUT/PD1 (out), 7 NRST (io), 8 VSSA (power), 9 VDDA (power), 10 PA0-WKUP (io), 11 PA1 (io), 12 PA2 (io), 13 PA3 (io), 14 PA4 (io), 15 PA5 (io), 16 PA6 (io), 17 PA7 (io), 18 PB0 (io), 19 PB1 (io), 20 PB2/BOOT1 (io), 21 PB10 (io), 22 PB11 (io), 23 VSS_1 (power), 24 VDD_1 (power), 25 PB12 (io), 26 PB13 (io), 27 PB14 (io), 28 PB15 (io), 29 PA8 (io), 30 PA9 (io), 31 PA10 (io), 32 PA11 (io), 33 PA12 (io), 34 PA13 (io), 35 VSS_2 (power), 36 VDD_2 (power), 37 PA14 (io), 38 PA15 (io), 39 PB3 (io), 40 PB4/JNTRST (io), 41 PB5 (io), 42 PB6 (io), 43 PB7 (io), 44 BOOT0 (in), 45 PB8 (io), 46 PB9 (io), 47 VSS_3 (power), 48 VDD_3 (power)

## STM32F103xx_LQFP64
designator U?
footprint STM32_LQFP64 (TSQFP, 64-Leads, Body 10.00x10.00mm, Pitch 0.50mm, IPC Medium Density)
pins: 1 VBAT, 2 PC13, 3 PC14, 4 PC15, 5 PH0, 6 PH1, 7 NRST, 8 PC0, 9 PC1, 10 PC2, 11 PC3, 12 VSSA, 13 VDDA, 14 PA0_WKUP, 15 PA1, 16 PA2, 17 PA3, 18 VSS, 19 VDD, 20 PA4, 21 PA5, 22 PA6, 23 PA7, 24 PC4, 25 PC5, 26 PB0, 27 PB1, 28 PB2, 29 PB10, 30 PB11, 31 VCAP_1, 32 VDD, 33 PB12, 34 PB13, 35 PB14, 36 PB15, 37 PC6, 38 PC7, 39 PC8, 40 PC9, 41 PA8, 42 PA9, 43 PA10, 44 PA11, 45 PA12, 46 PA13, 47 VCAP_2, 48 VDD, 49 PA14, 50 PA15, 51 PC10, 52 PC11, 53 PC12, 54 PD2, 55 PB3, 56 PB4, 57 PB5, 58 PB6, 59 PB7, 60 BOOT0, 61 PB8, 62 PB9, 63 VSS, 64 VDD
text: STM32F407xx-LQFP64

## STM32F103xx_LQFP100
designator U?
footprint STM32_LQFP100 (TSQFP, 100-Leads, Body 14.00x14.00mm, Pitch 0.50mm, IPC Medium Density)
pins: 1 PE2, 2 PE3, 3 PE4, 4 PE5, 5 PE6, 6 VBAT, 7 PC13-TAM-RTC, 8 PC14-OSC32_IN, 9 PC15-OSC32_OUT, 10 VSS_5, 11 VDD_5, 12 OSC_IN, 13 OSC_OUT, 14 NRST, 15 PC0, 16 PC1, 17 PC2, 18 PC3, 19 VSSA, 20 VREF--, 21 VREF+, 22 VDDA, 23 PA0-WKUP, 24 PA1, 25 PA2, 26 PA3, 27 VSS_4, 28 VDD_4, 29 PA4, 30 PA5, 31 PA6, 32 PA7, 33 PC4, 34 PC5, 35 PB0, 36 PB1, 37 PB2, 38 PE7, 39 PE8, 40 PE9, 41 PE10, 42 PE11, 43 PE12, 44 PE13, 45 PE14, 46 PE15, 47 PB10, 48 PB11, 49 VSS_1, 50 VDD_1, 51 PB12, 52 PB13, 53 PB14, 54 PB15, 55 PD8, 56 PD9, 57 PD10, 58 PD11, 59 PD12, 60 PD13, 61 PD14, 62 PD15, 63 PC6, 64 PC7, 65 PC8, 66 PC9, 67 PA 8, 68 PA 9, 69 PA 10, 70 PA 11, 71 PA 12, 72 PA 13, 73 NC, 74 VSS_2, 75 VDD_2, 76 PA14, 77 PA15, 78 PC10, 79 PC11, 80 PC12, 81 PD0, 82 PD1, 83 PD2, 84 PD3, 85 PD4, 86 PD5, 87 PD6, 88 PD7, 89 PB3, 90 PB4, 91 PB5, 92 PB6, 93 PB7, 94 BOOT0, 95 PB8, 96 PB9, 97 PE0, 98 PE1, 99 VSS_3, 100 VDD_3

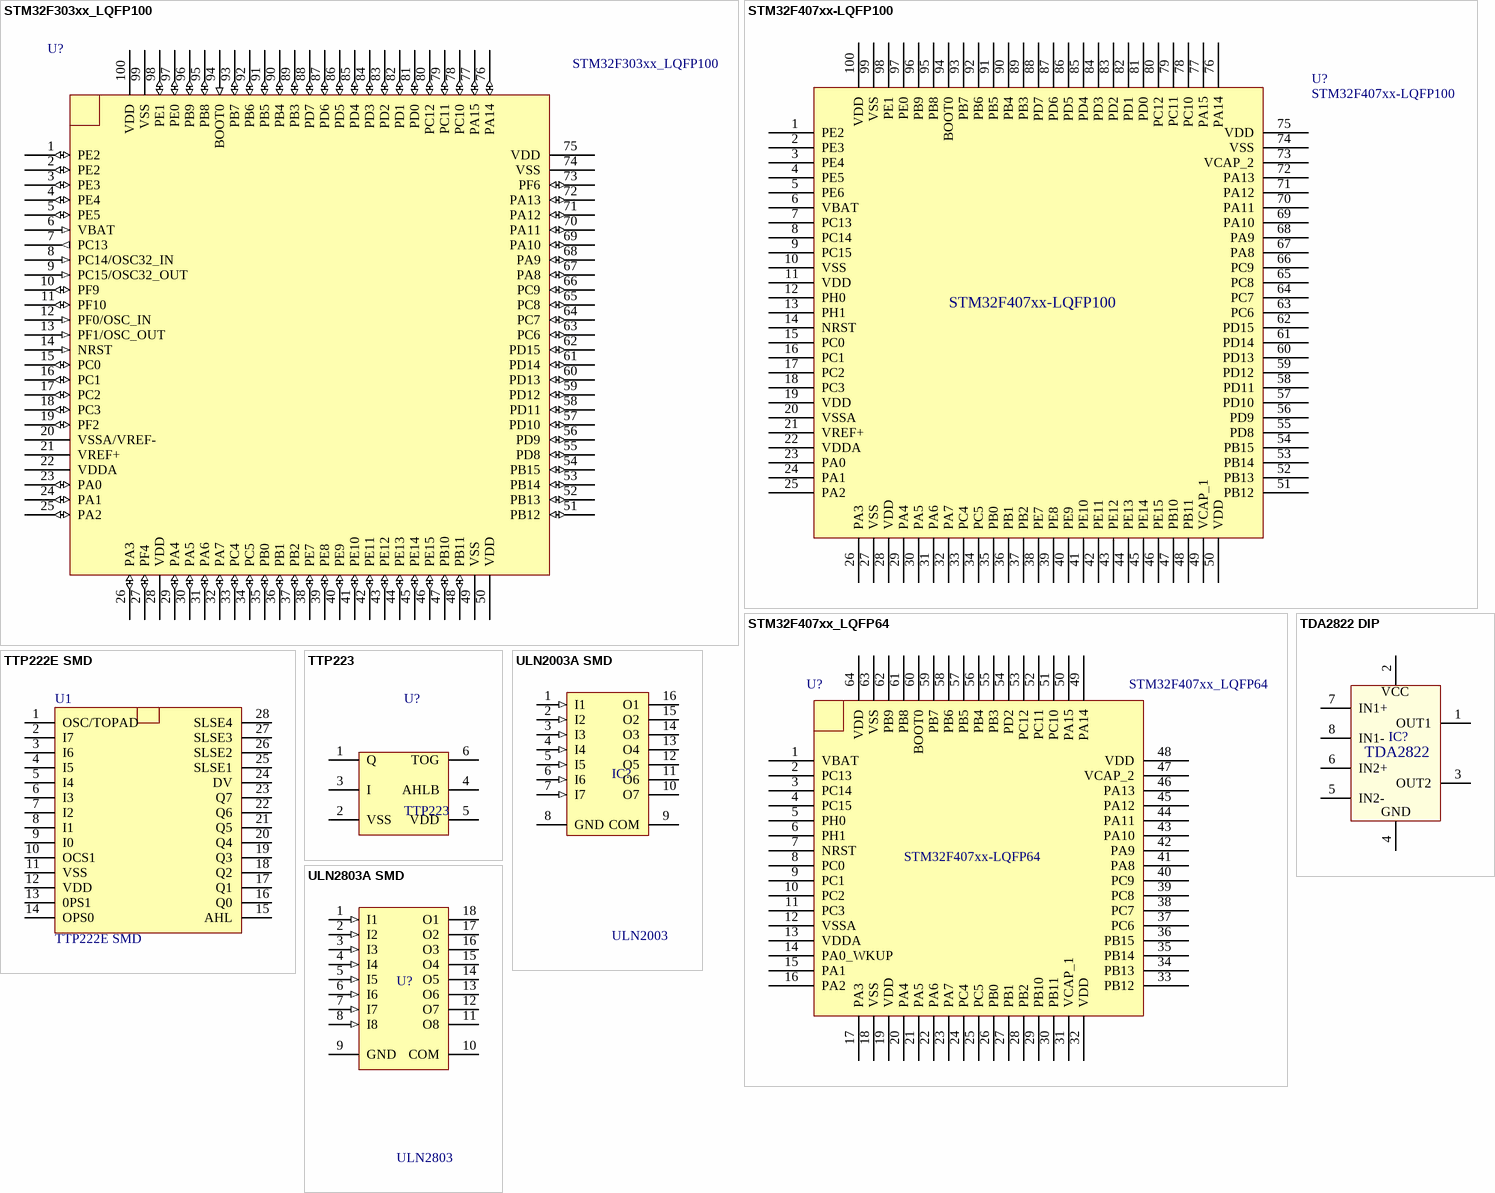
[diagram p11: symbols STM32F303xx_LQFP100 to ULN2803A SMD]

## STM32F303xx_LQFP100
designator U?
footprint STM32_LQFP100 (TSQFP, 100-Leads, Body 14.00x14.00mm, Pitch 0.50mm, IPC Medium Density)
pins: 1 PE2 (io), 2 PE2 (io), 3 PE3 (io), 4 PE4 (io), 5 PE5 (io), 6 VBAT (in), 7 PC13 (out), 8 PC14/OSC32_IN (in), 9 PC15/OSC32_OUT (in), 10 PF9 (io), 11 PF10 (io), 12 PF0/OSC_IN (in), 13 PF1/OSC_OUT (in), 14 NRST (in), 15 PC0 (io), 16 PC1 (io), 17 PC2 (io), 18 PC3 (io), 19 PF2 (io), 20 VSSA/VREF- (power), 21 VREF+ (power), 22 VDDA (power), 23 PA0 (io), 24 PA1 (io), 25 PA2 (io), 26 PA3 (io), 27 PF4 (io), 28 VDD (power), 29 PA4 (io), 30 PA5 (io), 31 PA6 (io), 32 PA7 (io), 33 PC4 (io), 34 PC5 (io), 35 PB0 (io), 36 PB1 (io), 37 PB2 (io), 38 PE7 (io), 39 PE8 (io), 40 PE9 (io), 41 PE10 (io), 42 PE11 (io), 43 PE12 (io), 44 PE13 (io), 45 PE14 (io), 46 PE15 (io), 47 PB10 (io), 48 PB11 (io), 49 VSS (power), 50 VDD (power), 51 PB12 (io), 52 PB13 (io), 53 PB14 (io), 54 PB15 (io), 55 PD8 (io), 56 PD9 (io), 57 PD10 (io), 58 PD11 (io), 59 PD12 (io), 60 PD13 (io), 61 PD14 (io), 62 PD15 (io), 63 PC6 (io), 64 PC7 (io), 65 PC8 (io), 66 PC9 (io), 67 PA8 (io), 68 PA9 (io), 69 PA10 (io), 70 PA11 (io), 71 PA12 (io), 72 PA13 (io), 73 PF6 (io), 74 VSS (power), 75 VDD (power), 76 PA14 (io), 77 PA15 (io), 78 PC10 (io), 79 PC11 (io), 80 PC12 (io), 81 PD0 (io), 82 PD1 (io), 83 PD2 (io), 84 PD3 (io), 85 PD4 (io), 86 PD5 (io), 87 PD6 (io), 88 PD7 (io), 89 PB3 (io), 90 PB4 (io), 91 PB5 (io), 92 PB6 (io), 93 PB7 (io), 94 BOOT0 (in), 95 PB8 (io), 96 PB9 (io), 97 PE0 (io), 98 PE1 (io), 99 VSS (power), 100 VDD (power)

## STM32F407xx-LQFP100
designator U?
footprint STM32_LQFP100 (TSQFP, 100-Leads, Body 14.00x14.00mm, Pitch 0.50mm, IPC Medium Density)
pins: 1 PE2, 2 PE3, 3 PE4, 4 PE5, 5 PE6, 6 VBAT, 7 PC13, 8 PC14, 9 PC15, 10 VSS, 11 VDD, 12 PH0, 13 PH1, 14 NRST, 15 PC0, 16 PC1, 17 PC2, 18 PC3, 19 VDD, 20 VSSA, 21 VREF+, 22 VDDA, 23 PA0, 24 PA1, 25 PA2, 26 PA3, 27 VSS, 28 VDD, 29 PA4, 30 PA5, 31 PA6, 32 PA7, 33 PC4, 34 PC5, 35 PB0, 36 PB1, 37 PB2, 38 PE7, 39 PE8, 40 PE9, 41 PE10, 42 PE11, 43 PE12, 44 PE13, 45 PE14, 46 PE15, 47 PB10, 48 PB11, 49 VCAP_1, 50 VDD, 51 PB12, 52 PB13, 53 PB14, 54 PB15, 55 PD8, 56 PD9, 57 PD10, 58 PD11, 59 PD12, 60 PD13, 61 PD14, 62 PD15, 63 PC6, 64 PC7, 65 PC8, 66 PC9, 67 PA8, 68 PA9, 69 PA10, 70 PA11, 71 PA12, 72 PA13, 73 VCAP_2, 74 VSS, 75 VDD, 76 PA14, 77 PA15, 78 PC10, 79 PC11, 80 PC12, 81 PD0, 82 PD1, 83 PD2, 84 PD3, 85 PD4, 86 PD5, 87 PD6, 88 PD7, 89 PB3, 90 PB4, 91 PB5, 92 PB6, 93 PB7, 94 BOOT0, 95 PB8, 96 PB9, 97 PE0, 98 PE1, 99 VSS, 100 VDD

## STM32F407xx_LQFP64
designator U?
footprint STM32_LQFP64 (TSQFP, 64-Leads, Body 10.00x10.00mm, Pitch 0.50mm, IPC Medium Density)
pins: 1 VBAT, 2 PC13, 3 PC14, 4 PC15, 5 PH0, 6 PH1, 7 NRST, 8 PC0, 9 PC1, 10 PC2, 11 PC3, 12 VSSA, 13 VDDA, 14 PA0_WKUP, 15 PA1, 16 PA2, 17 PA3, 18 VSS, 19 VDD, 20 PA4, 21 PA5, 22 PA6, 23 PA7, 24 PC4, 25 PC5, 26 PB0, 27 PB1, 28 PB2, 29 PB10, 30 PB11, 31 VCAP_1, 32 VDD, 33 PB12, 34 PB13, 35 PB14, 36 PB15, 37 PC6, 38 PC7, 39 PC8, 40 PC9, 41 PA8, 42 PA9, 43 PA10, 44 PA11, 45 PA12, 46 PA13, 47 VCAP_2, 48 VDD, 49 PA14, 50 PA15, 51 PC10, 52 PC11, 53 PC12, 54 PD2, 55 PB3, 56 PB4, 57 PB5, 58 PB6, 59 PB7, 60 BOOT0, 61 PB8, 62 PB9, 63 VSS, 64 VDD
text: STM32F407xx-LQFP64

## TDA2822 DIP
designator IC?, comment MH001571  (value not drawn)
Cắm; Value: TDA2822 12V
footprint DIP8 (W.300/L.400)
pins: 1 OUT1, 2 VCC, 3 OUT2, 4 GND "VCC", 5 IN2- "VCC", 6 IN2+ "VCC", 7 IN1+ "VCC", 8 IN1- "VCC"
text: TDA2822

## TTP222E SMD
designator U1
Dán; Ten_Linh_Kien: TTP222E-807 SSOP28 IC TOUCH PAD; Don_Vi: Con; Ma_Hang: MH002738; Chung_Loai: Dán; Kieu_Chan: *; Ghi_Chu: *
footprint TSSOP28
pins: 1 OSC/TOPAD "Description", 2 I7, 3 I6, 4 I5, 5 I4, 6 I3, 7 I2, 8 I1, 9 I0, 10 OCS1, 11 VSS, 12 VDD, 13 0PS1, 14 OPS0, 15 AHL, 16 Q0, 17 Q1, 18 Q2, 19 Q3, 20 Q4, 21 Q5, 22 Q6, 23 Q7, 24 DV, 25 SLSE1, 26 SLSE2, 27 SLSE3, 28 SLSE4

## TTP223
designator U?
Half-Bridge Driver
footprint SOT23-6
pins: 1 Q, 2 VSS, 3 I, 4 AHLB, 5 VDD, 6 TOG

## ULN2003A SMD
designator IC?, comment ULN2003
Dán; Ten_Linh_Kien: ULN2003 SOP16; Don_Vi: Con; Ma_Hang: MH002408; Ghi_Chu: *; Chung_Loai: Dán; Kieu_Chan: *
footprint SOP 16 (SOIC, 16-Leads, Body 9.90x3.91mm, Pitch 1.27mm, IPC Medium Density)
pins: 1 I1 (in), 2 I2 (in), 3 I3 (in), 4 I4 (in), 5 I5 (in), 6 I6 (in), 7 I7 (in), 8 GND (power), 9 COM, 10 O7 (oc), 11 O6 (oc), 12 O5 (oc), 13 O4 (oc), 14 O3 (oc), 15 O2 (oc), 16 O1 (oc)

## ULN2803A SMD
designator U?, comment ULN2803
Dán; Ten_Linh_Kien: ULN2803AG SOP18; Ma_Hang: MH002406; Don_Vi: Con; Ghi_Chu: *; Chung_Loai: Dán; Kieu_Chan: *
footprint SOP 18 (SOIC, 18-Leads, Body 11.50x7.50mm, Pitch 1.27mm, IPC Medium Density)
pins: 1 I1 (in), 2 I2 (in), 3 I3 (in), 4 I4 (in), 5 I5 (in), 6 I6 (in), 7 I7 (in), 8 I8 (in), 9 GND (power), 10 COM, 11 O8 (oc), 12 O7 (oc), 13 O6 (oc), 14 O5 (oc), 15 O4 (oc), 16 O3 (oc), 17 O2 (oc), 18 O1 (oc)